# Altium footprint library SRD-05VDC.PcbLib: 1 footprints
Each footprint in its own frame and in the unit in brackets; x right, y up, seen from the top. Pads: shape width x height; smd on the part's side, far side on the other; paste and mask are expansions set on the pad; w line width, h text height; cw(c..) or ccw(c..) is an arc to the next point about the centre after c.
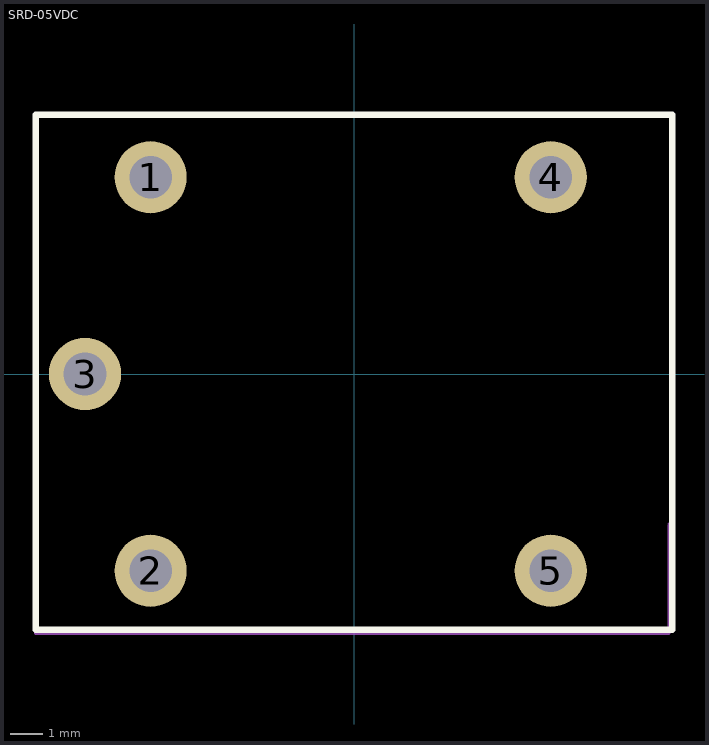
[diagram p0: the footprint, top view; thin cyan lines are the x and y axes]

## SRD-05VDC [mm]
height 0.55
pads (5):
  round 2.2 hole 1.3: 1(-6.2,6) 2(-6.2,-6) 3(-8.2,0) 4(6,6) 5(6,-6)
Top Overlay:
  lines w0.2: -9.7,-7.8 9.7,-7.8 9.7,7.9 -9.7,7.9 -9.7,-7.8
Top Assembly:
  lines w0.1: -9.7,-7.9 -9.7,7.9 9.7,7.9 9.7,-3.3 9.7,-4.5 9.6,-4.6 9.6,-7.9 -9.7,-7.9
  text "'.Designator'" at -0.975,-0.35 h0.7
3D body "User Library-SRD-05VDC-SL-C.STEP": height 15.4, standoff -5, extent -9.55,-7.75 9.55,7.75